# Altium footprint library SOD.PcbLib: 4 footprints
Each footprint in its own frame and in the unit in brackets; x right, y up, seen from the top. Pads: shape width x height; smd on the part's side, far side on the other; paste and mask are expansions set on the pad; w line width, h text height; cw(c..) or ccw(c..) is an arc to the next point about the centre after c.
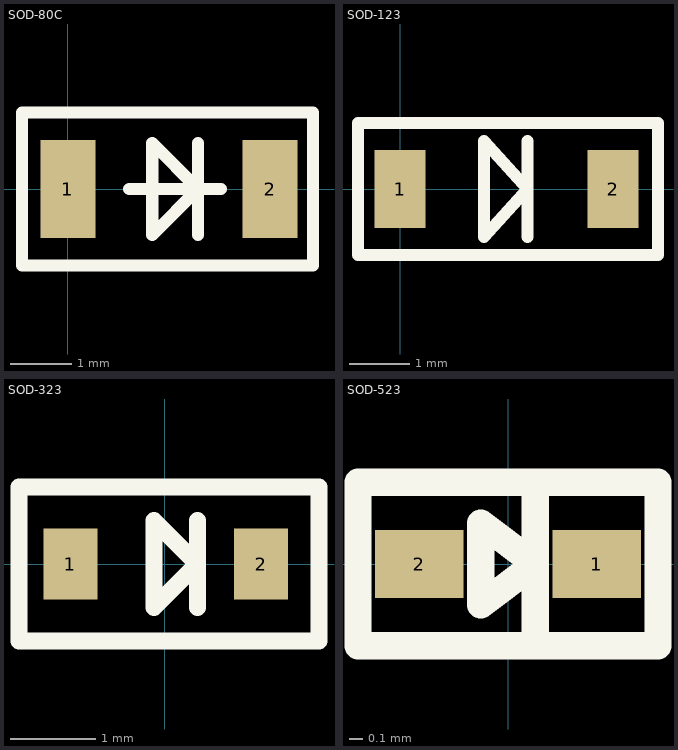
[diagram p0: the footprints below, top view; thin cyan lines are the x and y axes]

## SOD-80C [mm] "SMD Diode"
height 1.6
pads (2):
  rect 0.9x1.6 smd: 1(0,0) 2(3.3,0)
Top Overlay:
  lines w0.2: 1,0 2.5,0 ; 2.125,-0.75 2.125,0.75 ; -0.75,-1.25 4,-1.25 4,1.25 -0.75,1.25 -0.75,-1.25 ; 1.375,-0.75 1.375,0.75 2.125,0 1.375,-0.75
3D body "User Library-SOD80-3.STEP": height 1.55, standoff 0.05, extent -0.125,-0.75 3.475,0.75

## SOD-123 [mm] "SOD-123 diode package"
pads (2):
  rect 0.85x1.3 smd: 1(0,0) 2(3.55,0)
Top Overlay:
  lines w0.2: 2.125,-0.8 2.125,0.8 ; -0.7,-1.1 4.3,-1.1 4.3,1.1 -0.7,1.1 -0.7,-1.1 ; 1.4,-0.8 2.125,0 1.4,0.8 1.4,-0.8
3D body "User Library-SOD123-1.STEP": height 1.18, standoff 0, extent -0.175,-0.9 3.725,0.9

## SOD-323 [mm]
pads (2):
  rect 0.63x0.83 smd: 1(-1.1,0) 2(1.125,0)
Top Overlay:
  lines w0.2: 0.381,-0.508 0.381,0.508 ; -1.7,-0.9 -1.7,0.9 1.8,0.9 1.8,-0.9 -1.7,-0.9 ; -0.127,-0.508 -0.127,0.508 0.381,0 -0.127,-0.508
3D body "SW3dPS-SOD-323.STEP": height 1.1, standoff 0, extent -1.3,-0.675 1.3,0.675

## SOD-523 [mm] "Diode case SOD-523"
pads (2):
  rect 0.65x0.5 smd paste+0 mask+0: 1(0.65,0) 2(-0.65,0)
Top Overlay:
  lines w0.2: 0.2,-0.6 0.2,0.6 ; -1.1,-0.6 -1.1,0.6 1.1,0.6 1.1,-0.6 -1.1,-0.6 ; -0.2,-0.3 -0.2,0.3 0.2,0 -0.2,-0.3
3D body "User Library-SOD-523F.step": height 0.7, standoff 0, extent -0.8,-0.4 0.8,0.398